# Altium integrated library AD Operational Amplifier.IntLib: 1114 symbols (part 7 of 13)
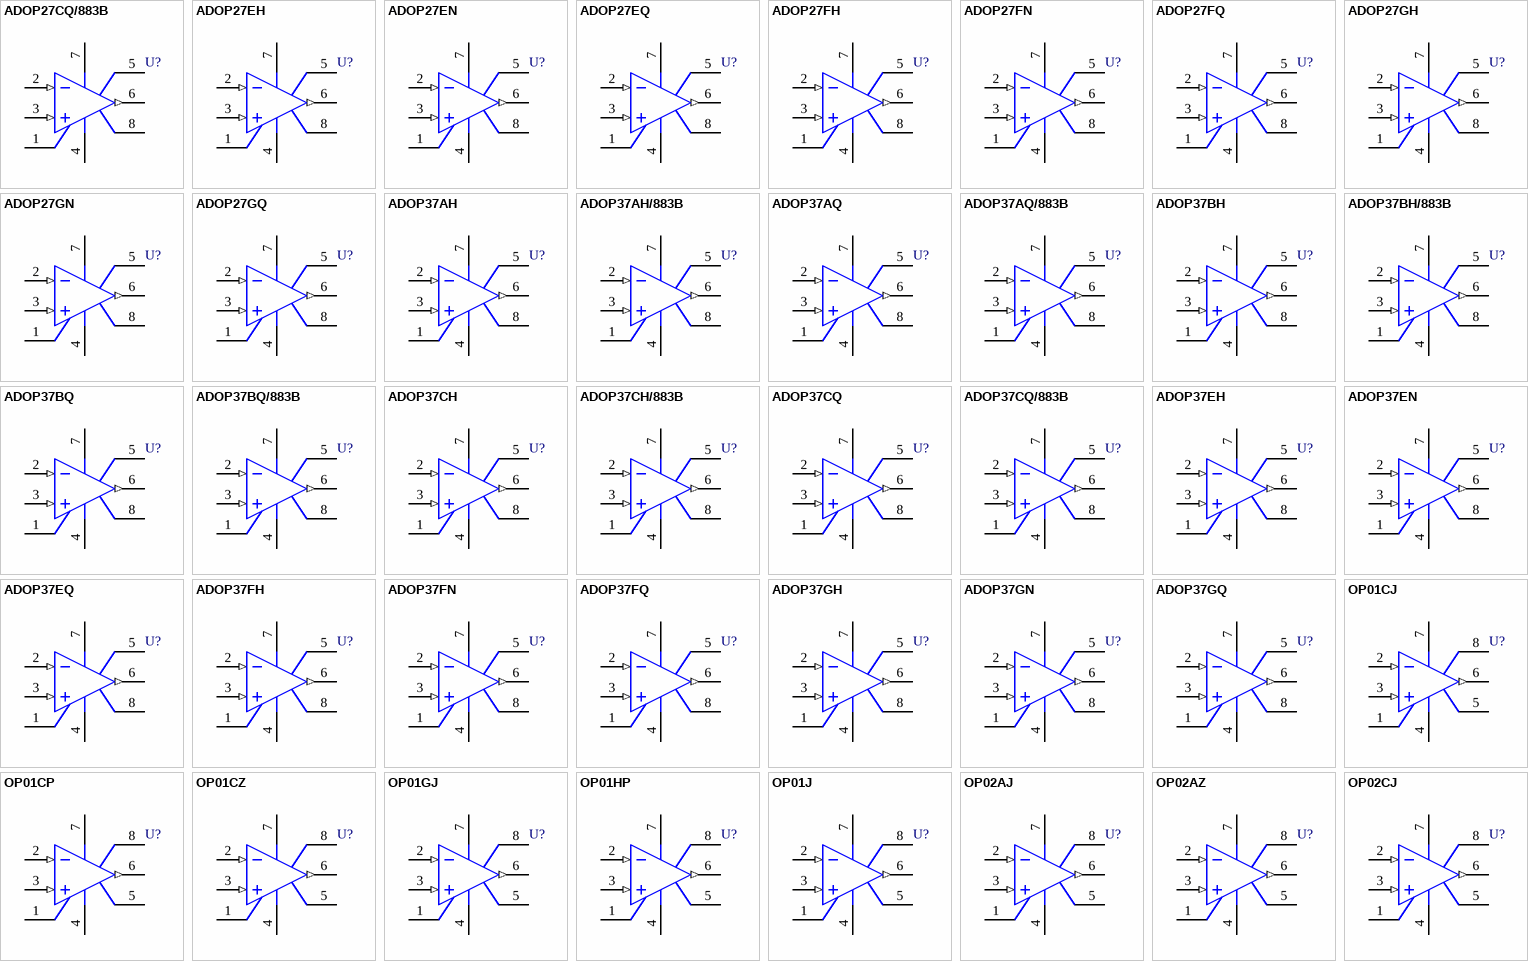
[diagram p52: symbols ADOP27CQ/883B to OP02CJ]

## ADOP37FQ
designator U?
Ultra-Low Noise, High-Speed, Precision Operational Amplifier (Avcl >= 5); Package Information: Latest Revision: 1998; Note: Pin 5 is not connected; Pin 4 connected to case.; Published: 8-Jun-2000; Revision: 17-Jul-2002: Re-released for DXP Platform.; Datasheet: Amplifier Reference Manual (1992); Package Reference: Q-8; Publisher: Altium Limited
footprint Q-8 (DIP; 8 Leads; Row Spacing 7.62 mm; Pitch 2.54 mm)
pins: 1 NULL1, 2 IN- (in), 3 IN+ (in), 4 V- (power), 5 NC, 6 OUT (out), 7 V+ (power), 8 NULL2

## ADOP37GH
designator U?
Ultra-Low Noise, High-Speed, Precision Operational Amplifier (Avcl >= 5); Package Information: Latest Revision: 1993; Note: Pin 5 is not connected; Pin 4 connected to case.; Published: 8-Jun-2000; Revision: 17-Jul-2002: Re-released for DXP Platform.; Datasheet: Latest Revision: REV.C 1993; Package Reference: H-08A_D; Publisher: Altium Limited
footprint H-08A_D (Can; 8 Leads; Pin Circle Dia. 5.08 mm; Lead Dia. 0.48 mm (max))
pins: 1 OS NULL, 2 IN- (in), 3 IN+ (in), 4 V- (power), 5 NC, 6 OUT (out), 7 V+ (power), 8 OS NULL

## ADOP37GN
designator U?
Ultra-Low Noise, High-Speed, Precision Operational Amplifier (Avcl >= 5); Note: Pin 5 is not connected; Pin 4 connected to case.; Code - JEDEC: MO-001-AN; Published: 8-Jun-2000; Revision: 17-Jul-2002: Re-released for DXP Platform.; Datasheet: Amplifier Reference Manual (1992); Package Reference: N-8_A; Publisher: Altium Limited
footprint N-8_A (DIP; 8 Leads; Row Spacing 7.62 mm; Pitch 2.54 mm)
pins: 1 NULL1, 2 IN- (in), 3 IN+ (in), 4 V- (power), 5 NC, 6 OUT (out), 7 V+ (power), 8 NULL2

## ADOP37GQ
designator U?
Ultra-Low Noise, High-Speed, Precision Operational Amplifier (Avcl >= 5); Package Information: Latest Revision: 1998; Note: Pin 5 is not connected; Pin 4 connected to case.; Published: 8-Jun-2000; Revision: 17-Jul-2002: Re-released for DXP Platform.; Datasheet: Amplifier Reference Manual (1992); Package Reference: Q-8; Publisher: Altium Limited
footprint Q-8 (DIP; 8 Leads; Row Spacing 7.62 mm; Pitch 2.54 mm)
pins: 1 NULL1, 2 IN- (in), 3 IN+ (in), 4 V- (power), 5 NC, 6 OUT (out), 7 V+ (power), 8 NULL2

## OP01CJ
designator U?
Inverting High-Speed Operational Amplifier; Package Information: Latest Revision: 1990; Note: Pin 8 is not connected; Pin 4 connected to case.; Published: 8-Jun-2000; Revision: 17-Jul-2002: Re-released for DXP Platform.; Datasheet: Amplifier Reference Manual (1992); Package Reference: H-08A; Publisher: Altium Limited
footprint H-08A (Can; 8 Leads; Pin Circle Dia. 5.08 mm; Lead Dia. 0.53 mm (max))
pins: 1 BAL, 2 IN- (in), 3 IN+ (in), 4 V- (power), 5 BAL, 6 OUT (out), 7 V+ (power), 8 NC

## OP01CP
designator U?
Inverting High-Speed Operational Amplifier; Note: Pin 8 is not connected; Pin 4 connected to case.; Code - JEDEC: MO-001-AN; Published: 8-Jun-2000; Revision: 17-Jul-2002: Re-released for DXP Platform.; Datasheet: Amplifier Reference Manual (1992); Package Reference: N-8_A; Publisher: Altium Limited
footprint N-8_A (DIP; 8 Leads; Row Spacing 7.62 mm; Pitch 2.54 mm)
pins: 1 BAL, 2 IN- (in), 3 IN+ (in), 4 V- (power), 5 BAL, 6 OUT (out), 7 V+ (power), 8 NC

## OP01CZ
designator U?
Inverting High-Speed Operational Amplifier; Package Information: Latest Revision: 1998; Note: Pin 8 is not connected; Pin 4 connected to case.; Published: 8-Jun-2000; Revision: 17-Jul-2002: Re-released for DXP Platform.; Datasheet: Amplifier Reference Manual (1992); Package Reference: Q-8; Publisher: Altium Limited
footprint Q-8 (DIP; 8 Leads; Row Spacing 7.62 mm; Pitch 2.54 mm)
pins: 1 BAL, 2 IN- (in), 3 IN+ (in), 4 V- (power), 5 BAL, 6 OUT (out), 7 V+ (power), 8 NC

## OP01GJ
designator U?
Inverting High-Speed Operational Amplifier; Package Information: Latest Revision: 1990; Note: Pin 8 is not connected; Pin 4 connected to case.; Published: 8-Jun-2000; Revision: 17-Jul-2002: Re-released for DXP Platform.; Datasheet: Amplifier Reference Manual (1992); Package Reference: H-08A; Publisher: Altium Limited
footprint H-08A (Can; 8 Leads; Pin Circle Dia. 5.08 mm; Lead Dia. 0.53 mm (max))
pins: 1 BAL, 2 IN- (in), 3 IN+ (in), 4 V- (power), 5 BAL, 6 OUT (out), 7 V+ (power), 8 NC

## OP01HP
designator U?
Inverting High-Speed Operational Amplifier; Note: Pin 8 is not connected; Pin 4 connected to case.; Code - JEDEC: MO-001-AN; Published: 8-Jun-2000; Revision: 17-Jul-2002: Re-released for DXP Platform.; Datasheet: Amplifier Reference Manual (1992); Package Reference: N-8_A; Publisher: Altium Limited
footprint N-8_A (DIP; 8 Leads; Row Spacing 7.62 mm; Pitch 2.54 mm)
pins: 1 BAL, 2 IN- (in), 3 IN+ (in), 4 V- (power), 5 BAL, 6 OUT (out), 7 V+ (power), 8 NC

## OP01J
designator U?
Inverting High-Speed Operational Amplifier; Package Information: Latest Revision: 1990; Note: Pin 8 is not connected; Pin 4 connected to case.; Published: 8-Jun-2000; Revision: 17-Jul-2002: Re-released for DXP Platform.; Datasheet: Amplifier Reference Manual (1992); Package Reference: H-08A; Publisher: Altium Limited
footprint H-08A (Can; 8 Leads; Pin Circle Dia. 5.08 mm; Lead Dia. 0.53 mm (max))
pins: 1 BAL, 2 IN- (in), 3 IN+ (in), 4 V- (power), 5 BAL, 6 OUT (out), 7 V+ (power), 8 NC

## OP02AJ
designator U?
General-Purpose Operational Amplifier; Package Information: Latest Revision: 1990; Note: Pin 8 is not connected; Pin 4 connected to case.; Published: 8-Jun-2000; Revision: 17-Jul-2002: Re-released for DXP Platform.; Datasheet: Designer's Reference Manual CD (1992); Package Reference: H-08A; Publisher: Altium Limited
footprint H-08A (Can; 8 Leads; Pin Circle Dia. 5.08 mm; Lead Dia. 0.53 mm (max))
pins: 1 OS NULL, 2 IN- (in), 3 IN+ (in), 4 V- (power), 5 OS NULL, 6 OUT (out), 7 V+ (power), 8 NC

## OP02AZ
designator U?
General-Purpose Operational Amplifier; Package Information: Latest Revision: 1998; Note: Pin 8 is not connected; Pin 4 connected to case.; Published: 8-Jun-2000; Revision: 17-Jul-2002: Re-released for DXP Platform.; Datasheet: Designer's Reference Manual CD (1992); Package Reference: Q-8; Publisher: Altium Limited
footprint Q-8 (DIP; 8 Leads; Row Spacing 7.62 mm; Pitch 2.54 mm)
pins: 1 BAL, 2 IN- (in), 3 IN+ (in), 4 V- (power), 5 BAL, 6 OUT (out), 7 V+ (power), 8 NC

## OP02CJ
designator U?
General-Purpose Operational Amplifier; Package Information: Latest Revision: 1990; Note: Pin 8 is not connected; Pin 4 connected to case.; Published: 8-Jun-2000; Revision: 17-Jul-2002: Re-released for DXP Platform.; Datasheet: Designer's Reference Manual CD (1992); Package Reference: H-08A; Publisher: Altium Limited
footprint H-08A (Can; 8 Leads; Pin Circle Dia. 5.08 mm; Lead Dia. 0.53 mm (max))
pins: 1 OS NULL, 2 IN- (in), 3 IN+ (in), 4 V- (power), 5 OS NULL, 6 OUT (out), 7 V+ (power), 8 NC

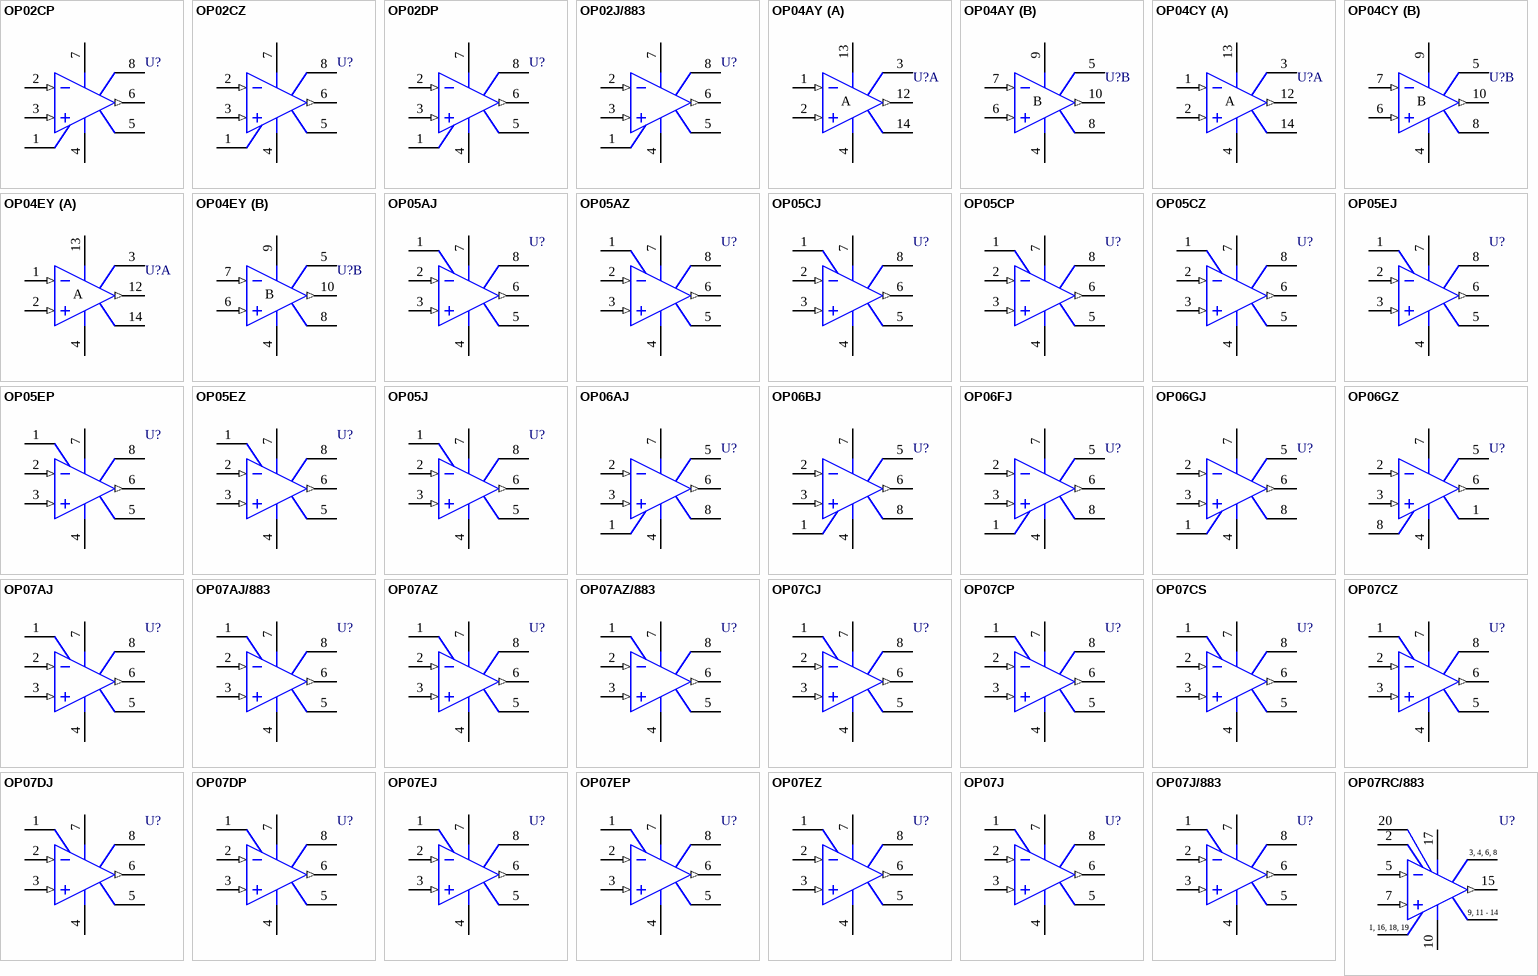
[diagram p19: symbols OP02CP to OP07RC/883]

## OP02CP
designator U?
General-Purpose Operational Amplifier; Note: Pin 8 is not connected; Pin 4 connected to case.; Code - JEDEC: MO-001-AN; Published: 8-Jun-2000; Revision: 17-Jul-2002: Re-released for DXP Platform.; Datasheet: Designer's Reference Manual CD (1992); Package Reference: N-8_A; Publisher: Altium Limited
footprint N-8_A (DIP; 8 Leads; Row Spacing 7.62 mm; Pitch 2.54 mm)
pins: 1 BAL, 2 IN- (in), 3 IN+ (in), 4 V- (power), 5 BAL, 6 OUT (out), 7 V+ (power), 8 NC

## OP02CZ
designator U?
General-Purpose Operational Amplifier; Package Information: Latest Revision: 1998; Note: Pin 8 is not connected; Pin 4 connected to case.; Published: 8-Jun-2000; Revision: 17-Jul-2002: Re-released for DXP Platform.; Datasheet: Designer's Reference Manual CD (1992); Package Reference: Q-8; Publisher: Altium Limited
footprint Q-8 (DIP; 8 Leads; Row Spacing 7.62 mm; Pitch 2.54 mm)
pins: 1 BAL, 2 IN- (in), 3 IN+ (in), 4 V- (power), 5 BAL, 6 OUT (out), 7 V+ (power), 8 NC

## OP02DP
designator U?
General-Purpose Operational Amplifier; Note: Pin 8 is not connected; Pin 4 connected to case.; Code - JEDEC: MO-001-AN; Published: 8-Jun-2000; Revision: 17-Jul-2002: Re-released for DXP Platform.; Datasheet: Designer's Reference Manual CD (1992); Package Reference: N-8_A; Publisher: Altium Limited
footprint N-8_A (DIP; 8 Leads; Row Spacing 7.62 mm; Pitch 2.54 mm)
pins: 1 BAL, 2 IN- (in), 3 IN+ (in), 4 V- (power), 5 BAL, 6 OUT (out), 7 V+ (power), 8 NC

## OP02J/883
designator U?
General-Purpose Operational Amplifier; Package Information: Latest Revision: 1990; Note: Pin 8 is not connected; Pin 4 connected to case.; Published: 8-Jun-2000; Revision: 17-Jul-2002: Re-released for DXP Platform.; Datasheet: Designer's Reference Manual CD (1992); Package Reference: H-08A; Publisher: Altium Limited
footprint H-08A (Can; 8 Leads; Pin Circle Dia. 5.08 mm; Lead Dia. 0.53 mm (max))
pins: 1 OS NULL, 2 IN- (in), 3 IN+ (in), 4 V- (power), 5 OS NULL, 6 OUT (out), 7 V+ (power), 8 NC

## OP04AY
designator U?
Dual Matched High Performance Operational Amplifier; Package Information: Latest Revision: revB; Note: Pin 11 is not connected (NC) and not drawn.; Published: 8-Jun-2000; Revision: 17-Jul-2002: Re-released for DXP Platform.; Datasheet: Designer's Reference Manual CD (REV. B 1992); Package Reference: Q-14; Publisher: Altium Limited
footprint Q-14 (DIP; 14 Leads; Row Spacing 7.62 mm; Pitch 2.54 mm)
pins on every part: 4 V- (power)
part A pins: 1 IN- (in), 2 IN+ (in), 3 BAL, 12 OUT (out), 13 V+ (power), 14 BAL
part B pins: 5 BAL, 6 IN+ (in), 7 IN- (in), 8 BAL, 9 V+ (power), 10 OUT (out)
part A text: A
part B text: B

## OP04CY
designator U?
Dual Matched High Performance Operational Amplifier; Package Information: Latest Revision: revB; Note: Pin 11 is not connected (NC) and not drawn.; Published: 8-Jun-2000; Revision: 17-Jul-2002: Re-released for DXP Platform.; Datasheet: Designer's Reference Manual CD (REV. B 1992); Package Reference: Q-14; Publisher: Altium Limited
footprint Q-14 (DIP; 14 Leads; Row Spacing 7.62 mm; Pitch 2.54 mm)
pins on every part: 4 V- (power)
part A pins: 1 IN- (in), 2 IN+ (in), 3 BAL, 12 OUT (out), 13 V+ (power), 14 BAL
part B pins: 5 BAL, 6 IN+ (in), 7 IN- (in), 8 BAL, 9 V+ (power), 10 OUT (out)
part A text: A
part B text: B

## OP04EY
designator U?
Dual Matched High Performance Operational Amplifier; Package Information: Latest Revision: revB; Note: Pin 11 is not connected (NC) and not drawn.; Published: 8-Jun-2000; Revision: 17-Jul-2002: Re-released for DXP Platform.; Datasheet: Designer's Reference Manual CD (REV. B 1992); Package Reference: Q-14; Publisher: Altium Limited
footprint Q-14 (DIP; 14 Leads; Row Spacing 7.62 mm; Pitch 2.54 mm)
pins on every part: 4 V- (power)
part A pins: 1 IN- (in), 2 IN+ (in), 3 BAL, 12 OUT (out), 13 V+ (power), 14 BAL
part B pins: 5 BAL, 6 IN+ (in), 7 IN- (in), 8 BAL, 9 V+ (power), 10 OUT (out)
part A text: A
part B text: B

## OP05AJ
designator U?
Instrumentation Operational Amplifier; Package Information: Latest Revision: 1990; Note: Pin 5 is not connected; Pin 4 connected to case.; Published: 8-Jun-2000; Revision: 17-Jul-2002: Re-released for DXP Platform.; Datasheet: Latest Revision: 1992; Package Reference: H-08A; Publisher: Altium Limited
footprint H-08A (Can; 8 Leads; Pin Circle Dia. 5.08 mm; Lead Dia. 0.53 mm (max))
pins: 1 VOSTRIM, 2 IN- (in), 3 IN+ (in), 4 V- (power), 5 NC, 6 OUT (out), 7 V+ (power), 8 VOSTRIM

## OP05AZ
designator U?
Instrumentation Operational Amplifier; Package Information: Latest Revision: 1998; Note: Pin 5 is not connected.; Published: 8-Jun-2000; Revision: 17-Jul-2002: Re-released for DXP Platform.; Datasheet: Latest Revision: 1992; Package Reference: Q-8; Publisher: Altium Limited
footprint Q-8 (DIP; 8 Leads; Row Spacing 7.62 mm; Pitch 2.54 mm)
pins: 1 VOSTRIM, 2 IN- (in), 3 IN+ (in), 4 V- (power), 5 NC, 6 OUT (out), 7 V+ (power), 8 VOSTRIM

## OP05CJ
designator U?
Instrumentation Operational Amplifier; Package Information: Latest Revision: 1990; Note: Pin 5 is not connected; Pin 4 connected to case.; Published: 8-Jun-2000; Revision: 17-Jul-2002: Re-released for DXP Platform.; Datasheet: Latest Revision: 1992; Package Reference: H-08A; Publisher: Altium Limited
footprint H-08A (Can; 8 Leads; Pin Circle Dia. 5.08 mm; Lead Dia. 0.53 mm (max))
pins: 1 VOSTRIM, 2 IN- (in), 3 IN+ (in), 4 V- (power), 5 NC, 6 OUT (out), 7 V+ (power), 8 VOSTRIM

## OP05CP
designator U?
Instrumentation Operational Amplifier; Note: Pin 5 is not connected.; Code - JEDEC: MO-001-AN; Published: 8-Jun-2000; Revision: 17-Jul-2002: Re-released for DXP Platform.; Datasheet: Latest Revision: 1992; Package Reference: N-8_A; Publisher: Altium Limited
footprint N-8_A (DIP; 8 Leads; Row Spacing 7.62 mm; Pitch 2.54 mm)
pins: 1 VOSTRIM, 2 IN- (in), 3 IN+ (in), 4 V- (power), 5 NC, 6 OUT (out), 7 V+ (power), 8 VOSTRIM

## OP05CZ
designator U?
Instrumentation Operational Amplifier; Package Information: Latest Revision: 1998; Note: Pin 5 is not connected.; Published: 8-Jun-2000; Revision: 17-Jul-2002: Re-released for DXP Platform.; Datasheet: Latest Revision: 1992; Package Reference: Q-8; Publisher: Altium Limited
footprint Q-8 (DIP; 8 Leads; Row Spacing 7.62 mm; Pitch 2.54 mm)
pins: 1 VOSTRIM, 2 IN- (in), 3 IN+ (in), 4 V- (power), 5 NC, 6 OUT (out), 7 V+ (power), 8 VOSTRIM

## OP05EJ
designator U?
Instrumentation Operational Amplifier; Package Information: Latest Revision: 1990; Note: Pin 5 is not connected; Pin 4 connected to case.; Published: 8-Jun-2000; Revision: 17-Jul-2002: Re-released for DXP Platform.; Datasheet: Latest Revision: 1992; Package Reference: H-08A; Publisher: Altium Limited
footprint H-08A (Can; 8 Leads; Pin Circle Dia. 5.08 mm; Lead Dia. 0.53 mm (max))
pins: 1 VOSTRIM, 2 IN- (in), 3 IN+ (in), 4 V- (power), 5 NC, 6 OUT (out), 7 V+ (power), 8 VOSTRIM

## OP05EP
designator U?
Instrumentation Operational Amplifier; Note: Pin 5 is not connected.; Code - JEDEC: MO-001-AN; Published: 8-Jun-2000; Revision: 17-Jul-2002: Re-released for DXP Platform.; Datasheet: Latest Revision: 1992; Package Reference: N-8_A; Publisher: Altium Limited
footprint N-8_A (DIP; 8 Leads; Row Spacing 7.62 mm; Pitch 2.54 mm)
pins: 1 VOSTRIM, 2 IN- (in), 3 IN+ (in), 4 V- (power), 5 NC, 6 OUT (out), 7 V+ (power), 8 VOSTRIM

## OP05EZ
designator U?
Instrumentation Operational Amplifier; Package Information: Latest Revision: 1998; Note: Pin 5 is not connected.; Published: 8-Jun-2000; Revision: 17-Jul-2002: Re-released for DXP Platform.; Datasheet: Latest Revision: 1992; Package Reference: Q-8; Publisher: Altium Limited
footprint Q-8 (DIP; 8 Leads; Row Spacing 7.62 mm; Pitch 2.54 mm)
pins: 1 VOSTRIM, 2 IN- (in), 3 IN+ (in), 4 V- (power), 5 NC, 6 OUT (out), 7 V+ (power), 8 VOSTRIM

## OP05J
designator U?
Instrumentation Operational Amplifier; Package Information: Latest Revision: 1990; Note: Pin 5 is not connected; Pin 4 connected to case.; Published: 8-Jun-2000; Revision: 17-Jul-2002: Re-released for DXP Platform.; Datasheet: Latest Revision: 1992; Package Reference: H-08A; Publisher: Altium Limited
footprint H-08A (Can; 8 Leads; Pin Circle Dia. 5.08 mm; Lead Dia. 0.53 mm (max))
pins: 1 VOSTRIM, 2 IN- (in), 3 IN+ (in), 4 V- (power), 5 NC, 6 OUT (out), 7 V+ (power), 8 VOSTRIM

## OP06AJ
designator U?
High-Gain Instrumentation Operational Amplifier; Package Information: Latest Revision: 1990; Note: Pin 4 connected to case.; Published: 8-Jun-2000; Revision: 17-Jul-2002: Re-released for DXP Platform.; Datasheet: Latest Revision: 1992; Package Reference: H-08A; Publisher: Altium Limited
footprint H-08A (Can; 8 Leads; Pin Circle Dia. 5.08 mm; Lead Dia. 0.53 mm (max))
pins: 1 VOSTRIM, 2 IN- (in), 3 IN+ (in), 4 V- (power), 5 CMPEN, 6 OUT (out), 7 V+ (power), 8 VOSTRIM

## OP06BJ
designator U?
High-Gain Instrumentation Operational Amplifier; Package Information: Latest Revision: 1990; Note: Pin 4 connected to case.; Published: 8-Jun-2000; Revision: 17-Jul-2002: Re-released for DXP Platform.; Datasheet: Latest Revision: 1992; Package Reference: H-08A; Publisher: Altium Limited
footprint H-08A (Can; 8 Leads; Pin Circle Dia. 5.08 mm; Lead Dia. 0.53 mm (max))
pins: 1 VOSTRIM, 2 IN- (in), 3 IN+ (in), 4 V- (power), 5 CMPEN, 6 OUT (out), 7 V+ (power), 8 VOSTRIM

## OP06FJ
designator U?
High-Gain Instrumentation Operational Amplifier; Package Information: Latest Revision: 1990; Note: Pin 4 connected to case.; Published: 8-Jun-2000; Revision: 17-Jul-2002: Re-released for DXP Platform.; Datasheet: Latest Revision: 1992; Package Reference: H-08A; Publisher: Altium Limited
footprint H-08A (Can; 8 Leads; Pin Circle Dia. 5.08 mm; Lead Dia. 0.53 mm (max))
pins: 1 VOSTRIM, 2 IN- (in), 3 IN+ (in), 4 V- (power), 5 CMPEN, 6 OUT (out), 7 V+ (power), 8 VOSTRIM

## OP06GJ
designator U?
High-Gain Instrumentation Operational Amplifier; Package Information: Latest Revision: 1990; Note: Pin 4 connected to case.; Published: 8-Jun-2000; Revision: 17-Jul-2002: Re-released for DXP Platform.; Datasheet: Latest Revision: 1992; Package Reference: H-08A; Publisher: Altium Limited
footprint H-08A (Can; 8 Leads; Pin Circle Dia. 5.08 mm; Lead Dia. 0.53 mm (max))
pins: 1 VOSTRIM, 2 IN- (in), 3 IN+ (in), 4 V- (power), 5 CMPEN, 6 OUT (out), 7 V+ (power), 8 VOSTRIM

## OP06GZ
designator U?
High-Gain Instrumentation Operational Amplifier; Package Information: Latest Revision: 1998; Note: Pin 4 connected to case.; Published: 8-Jun-2000; Revision: 17-Jul-2002: Re-released for DXP Platform.; Datasheet: Latest Revision: 1992; Package Reference: Q-8; Publisher: Altium Limited
footprint Q-8 (DIP; 8 Leads; Row Spacing 7.62 mm; Pitch 2.54 mm)
pins: 1 VOSTRIM, 2 IN- (in), 3 IN+ (in), 4 V- (power), 5 CMPEN, 6 OUT (out), 7 V+ (power), 8 VOSTRIM

## OP07AJ
designator U?
Ultra-Low Offset Voltage Operational Amplifier; Revision 1: 10-Jul-2000: SIM Model Added.; Revision 2: 17-Jul-2002: Re-released for DXP Platform.; Package Information: Latest Revision: 1990; Note: Pin 5 is not connected.; Published: 8-Jun-2000; Datasheet: Designer's Reference Manual CD (1992); Package Reference: H-08A; Publisher: Altium Limited
footprint H-08A (Can; 8 Leads; Pin Circle Dia. 5.08 mm; Lead Dia. 0.53 mm (max))
simulation model OP07A (SUBCKT)
pins: 1 VOSTRIM, 2 IN- (in), 3 IN+ (in), 4 V- (power), 5 NC, 6 OUT (out), 7 V+ (power), 8 VOSTRIM

## OP07AJ/883
designator U?
Ultra-Low Offset Voltage Operational Amplifier; Revision 1: 10-Jul-2000: SIM Model Added.; Revision 2: 17-Jul-2002: Re-released for DXP Platform.; Package Information: Latest Revision: 1990; Note: Pin 5 is not connected.; Published: 8-Jun-2000; Datasheet: Designer's Reference Manual CD (1992); Package Reference: H-08A; Publisher: Altium Limited
footprint H-08A (Can; 8 Leads; Pin Circle Dia. 5.08 mm; Lead Dia. 0.53 mm (max))
simulation model OP07A (SUBCKT)
pins: 1 VOSTRIM, 2 IN- (in), 3 IN+ (in), 4 V- (power), 5 NC, 6 OUT (out), 7 V+ (power), 8 VOSTRIM

## OP07AZ
designator U?
Ultra-Low Offset Voltage Operational Amplifier; Revision 1: 10-Jul-2000: SIM Model Added.; Revision 2: 17-Jul-2002: Re-released for DXP Platform.; Package Information: Latest Revision: 1998; Note: Pin 5 is not connected.; Published: 8-Jun-2000; Datasheet: Designer's Reference Manual CD (1992); Package Reference: Q-8; Publisher: Altium Limited
footprint Q-8 (DIP; 8 Leads; Row Spacing 7.62 mm; Pitch 2.54 mm)
simulation model OP07A (SUBCKT)
pins: 1 VOSTRIM, 2 IN- (in), 3 IN+ (in), 4 V- (power), 5 NC, 6 OUT (out), 7 V+ (power), 8 VOSTRIM

## OP07AZ/883
designator U?
Ultra-Low Offset Voltage Operational Amplifier; Revision 1: 10-Jul-2000: SIM Model Added.; Revision 2: 17-Jul-2002: Re-released for DXP Platform.; Package Information: Latest Revision: 1998; Note: Pin 5 is not connected.; Published: 8-Jun-2000; Datasheet: Designer's Reference Manual CD (1992); Package Reference: Q-8; Publisher: Altium Limited
footprint Q-8 (DIP; 8 Leads; Row Spacing 7.62 mm; Pitch 2.54 mm)
simulation model OP07A (SUBCKT)
pins: 1 VOSTRIM, 2 IN- (in), 3 IN+ (in), 4 V- (power), 5 NC, 6 OUT (out), 7 V+ (power), 8 VOSTRIM

## OP07CJ
designator U?
Ultra-Low Offset Voltage Operational Amplifier; Package Information: Latest Revision: 1990; Note: Pin 5 is not connected; Pin 4 connected to case.; Published: 8-Jun-2000; Revision: 17-Jul-2002: Re-released for DXP Platform.; Datasheet: Designer's Reference Manual CD (1992); Package Reference: H-08A; Publisher: Altium Limited
footprint H-08A (Can; 8 Leads; Pin Circle Dia. 5.08 mm; Lead Dia. 0.53 mm (max))
pins: 1 VOSTRIM, 2 IN- (in), 3 IN+ (in), 4 V- (power), 5 NC, 6 OUT (out), 7 V+ (power), 8 VOSTRIM

## OP07CP
designator U?
Ultra-Low Offset Voltage Operational Amplifier; Note: Pin 5 is not connected.; Code - JEDEC: MO-001-AN; Published: 8-Jun-2000; Revision: 17-Jul-2002: Re-released for DXP Platform.; Datasheet: Designer's Reference Manual CD (1992); Package Reference: N-8_A; Publisher: Altium Limited
footprint N-8_A (DIP; 8 Leads; Row Spacing 7.62 mm; Pitch 2.54 mm)
pins: 1 VOSTRIM, 2 IN- (in), 3 IN+ (in), 4 V- (power), 5 NC, 6 OUT (out), 7 V+ (power), 8 VOSTRIM

## OP07CS
designator U?
Ultra-Low Offset Voltage Operational Amplifier; Package Information: Latest Revision: revA; Note: Pin 5 is not connected.; Code - JEDEC: MS-012-AA; Code - IPC: SO8; Published: 8-Jun-2000; Revision: 17-Jul-2002: Re-released for DXP Platform.; Datasheet: Designer's Reference Manual CD (1992); Package Reference: SO-8; Publisher: Altium Limited
footprint SO-8 (Small Outline; 8 Leads; Body Width 3.9 mm; Pitch 1.27 mm)
pins: 1 VOSTRIM, 2 IN- (in), 3 IN+ (in), 4 V- (power), 5 NC, 6 OUT (out), 7 V+ (power), 8 VOSTRIM

## OP07CZ
designator U?
Ultra-Low Offset Voltage Operational Amplifier; Package Information: Latest Revision: 1998; Note: Pin 5 is not connected.; Published: 8-Jun-2000; Revision: 17-Jul-2002: Re-released for DXP Platform.; Datasheet: Designer's Reference Manual CD (1992); Package Reference: Q-8; Publisher: Altium Limited
footprint Q-8 (DIP; 8 Leads; Row Spacing 7.62 mm; Pitch 2.54 mm)
pins: 1 VOSTRIM, 2 IN- (in), 3 IN+ (in), 4 V- (power), 5 NC, 6 OUT (out), 7 V+ (power), 8 VOSTRIM

## OP07DJ
designator U?
Ultra-Low Offset Voltage Operational Amplifier; Package Information: Latest Revision: 1990; Note: Pin 5 is not connected; Pin 4 connected to case.; Published: 8-Jun-2000; Revision: 17-Jul-2002: Re-released for DXP Platform.; Datasheet: Designer's Reference Manual CD (1992); Package Reference: H-08A; Publisher: Altium Limited
footprint H-08A (Can; 8 Leads; Pin Circle Dia. 5.08 mm; Lead Dia. 0.53 mm (max))
pins: 1 VOSTRIM, 2 IN- (in), 3 IN+ (in), 4 V- (power), 5 NC, 6 OUT (out), 7 V+ (power), 8 VOSTRIM

## OP07DP
designator U?
Ultra-Low Offset Voltage Operational Amplifier; Note: Pin 5 is not connected.; Code - JEDEC: MO-001-AN; Published: 8-Jun-2000; Revision: 17-Jul-2002: Re-released for DXP Platform.; Datasheet: Designer's Reference Manual CD (1992); Package Reference: N-8_A; Publisher: Altium Limited
footprint N-8_A (DIP; 8 Leads; Row Spacing 7.62 mm; Pitch 2.54 mm)
pins: 1 VOSTRIM, 2 IN- (in), 3 IN+ (in), 4 V- (power), 5 NC, 6 OUT (out), 7 V+ (power), 8 VOSTRIM

## OP07EJ
designator U?
Ultra-Low Offset Voltage Operational Amplifier; Revision 1: 10-Jul-2000: SIM Model Added.; Revision 2: 17-Jul-2002: Re-released for DXP Platform.; Package Information: Latest Revision: 1990; Note: Pin 5 is not connected.; Published: 8-Jun-2000; Datasheet: Designer's Reference Manual CD (1992); Package Reference: H-08A; Publisher: Altium Limited
footprint H-08A (Can; 8 Leads; Pin Circle Dia. 5.08 mm; Lead Dia. 0.53 mm (max))
simulation model OP07E (SUBCKT)
pins: 1 VOSTRIM, 2 IN- (in), 3 IN+ (in), 4 V- (power), 5 NC, 6 OUT (out), 7 V+ (power), 8 VOSTRIM

## OP07EP
designator U?
Ultra-Low Offset Voltage Operational Amplifier; Revision 1: 10-Jul-2000: SIM Model Added.; Revision 2: 17-Jul-2002: Re-released for DXP Platform.; Note: Pin 5 is not connected.; Code - JEDEC: MO-001-AN; Published: 8-Jun-2000; Datasheet: Designer's Reference Manual CD (1992); Package Reference: N-8_A; Publisher: Altium Limited
footprint N-8_A (DIP; 8 Leads; Row Spacing 7.62 mm; Pitch 2.54 mm)
simulation model OP07E (SUBCKT)
pins: 1 VOSTRIM, 2 IN- (in), 3 IN+ (in), 4 V- (power), 5 NC, 6 OUT (out), 7 V+ (power), 8 VOSTRIM

## OP07EZ
designator U?
Ultra-Low Offset Voltage Operational Amplifier; Revision 1: 10-Jul-2000: SIM Model Added.; Revision 2: 17-Jul-2002: Re-released for DXP Platform.; Package Information: Latest Revision: 1998; Note: Pin 5 is not connected.; Published: 8-Jun-2000; Datasheet: Designer's Reference Manual CD (1992); Package Reference: Q-8; Publisher: Altium Limited
footprint Q-8 (DIP; 8 Leads; Row Spacing 7.62 mm; Pitch 2.54 mm)
simulation model OP07E (SUBCKT)
pins: 1 VOSTRIM, 2 IN- (in), 3 IN+ (in), 4 V- (power), 5 NC, 6 OUT (out), 7 V+ (power), 8 VOSTRIM

## OP07J
designator U?
Ultra-Low Offset Voltage Operational Amplifier; Package Information: Latest Revision: 1990; Note: Pin 5 is not connected; Pin 4 connected to case.; Published: 8-Jun-2000; Revision: 17-Jul-2002: Re-released for DXP Platform.; Datasheet: Designer's Reference Manual CD (1992); Package Reference: H-08A; Publisher: Altium Limited
footprint H-08A (Can; 8 Leads; Pin Circle Dia. 5.08 mm; Lead Dia. 0.53 mm (max))
pins: 1 VOSTRIM, 2 IN- (in), 3 IN+ (in), 4 V- (power), 5 NC, 6 OUT (out), 7 V+ (power), 8 VOSTRIM

## OP07J/883
designator U?
Ultra-Low Offset Voltage Operational Amplifier; Package Information: Latest Revision: 1990; Note: Pin 5 is not connected; Pin 4 connected to case.; Published: 8-Jun-2000; Revision: 17-Jul-2002: Re-released for DXP Platform.; Datasheet: Designer's Reference Manual CD (1992); Package Reference: H-08A; Publisher: Altium Limited
footprint H-08A (Can; 8 Leads; Pin Circle Dia. 5.08 mm; Lead Dia. 0.53 mm (max))
pins: 1 VOSTRIM, 2 IN- (in), 3 IN+ (in), 4 V- (power), 5 NC, 6 OUT (out), 7 V+ (power), 8 VOSTRIM

## OP07RC/883
designator U?
Ultra-Low Offset Voltage Operational Amplifier; Note: Pins 1, 3, 4, 6, 8, 9, 11, 12, 13, 14, 16, 18 and 19 are not connected.; Published: 8-Jun-2000; Revision: 17-Jul-2002: Re-released for DXP Platform.; Datasheet: Designer's Reference Manual CD (1992); Package Reference: E-20A; Publisher: Altium Limited
footprint E-20A (Leadless Chip Carrier; 20 Terminals; Body 8.9 x 8.9 mm)
pins: 1 NC, 2 VOSTRIM, 3 NC, 4 NC, 5 IN- (in), 6 NC, 7 IN+ (in), 8 NC, 9 NC, 10 V- (power), 11 NC, 12 NC, 13 NC, 14 NC, 15 OUT (out), 16 NC, 17 V+ (power), 18 NC, 19 NC, 20 VOSTRIM
text: 3, 4, 6, 8; 9, 11 - 14; 1, 16, 18, 19

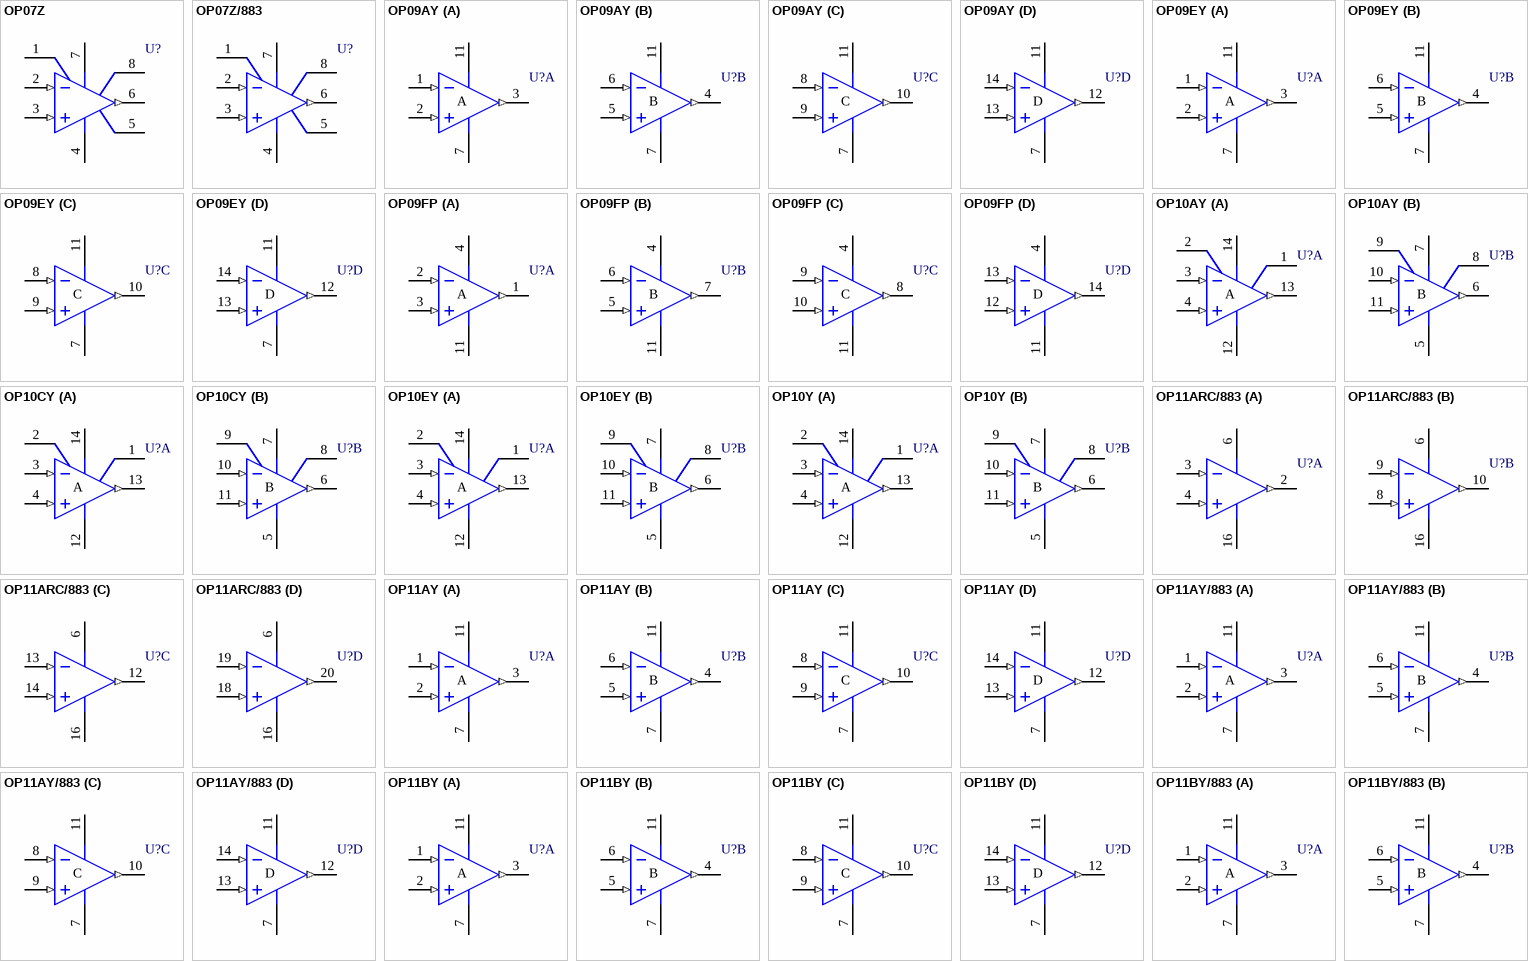
[diagram p20: symbols OP07Z to OP11BY/883]

## OP07Z
designator U?
Ultra-Low Offset Voltage Operational Amplifier; Package Information: Latest Revision: 1998; Note: Pin 5 is not connected.; Published: 8-Jun-2000; Revision: 17-Jul-2002: Re-released for DXP Platform.; Datasheet: Designer's Reference Manual CD (1992); Package Reference: Q-8; Publisher: Altium Limited
footprint Q-8 (DIP; 8 Leads; Row Spacing 7.62 mm; Pitch 2.54 mm)
pins: 1 VOSTRIM, 2 IN- (in), 3 IN+ (in), 4 V- (power), 5 NC, 6 OUT (out), 7 V+ (power), 8 VOSTRIM

## OP07Z/883
designator U?
Ultra-Low Offset Voltage Operational Amplifier; Package Information: Latest Revision: 1998; Note: Pin 5 is not connected.; Published: 8-Jun-2000; Revision: 17-Jul-2002: Re-released for DXP Platform.; Datasheet: Designer's Reference Manual CD (1992); Package Reference: Q-8; Publisher: Altium Limited
footprint Q-8 (DIP; 8 Leads; Row Spacing 7.62 mm; Pitch 2.54 mm)
pins: 1 VOSTRIM, 2 IN- (in), 3 IN+ (in), 4 V- (power), 5 NC, 6 OUT (out), 7 V+ (power), 8 VOSTRIM

## OP09AY
designator U?
Quad Matched 741-Type Operational Amplifier; Package Information: Latest Revision: revB; Published: 8-Jun-2000; Revision: 17-Jul-2002: Re-released for DXP Platform.; Datasheet: Latest Revision: 1992; Package Reference: Q-14; Publisher: Altium Limited
footprint Q-14 (DIP; 14 Leads; Row Spacing 7.62 mm; Pitch 2.54 mm)
pins on every part: 7 V- (power), 11 V+ (power)
part A pins: 1 IN- (in), 2 IN+ (in), 3 OUT (out)
part B pins: 4 OUT (out), 5 IN+ (in), 6 IN- (in)
part C pins: 8 IN- (in), 9 IN+ (in), 10 OUT (out)
part D pins: 12 OUT (out), 13 IN+ (in), 14 IN- (in)
part A text: A
part B text: B
part C text: C
part D text: D

## OP09EY
designator U?
Quad Matched 741-Type Operational Amplifier; Package Information: Latest Revision: revB; Published: 8-Jun-2000; Revision: 17-Jul-2002: Re-released for DXP Platform.; Datasheet: Latest Revision: 1992; Package Reference: Q-14; Publisher: Altium Limited
footprint Q-14 (DIP; 14 Leads; Row Spacing 7.62 mm; Pitch 2.54 mm)
pins on every part: 7 V- (power), 11 V+ (power)
part A pins: 1 IN- (in), 2 IN+ (in), 3 OUT (out)
part B pins: 4 OUT (out), 5 IN+ (in), 6 IN- (in)
part C pins: 8 IN- (in), 9 IN+ (in), 10 OUT (out)
part D pins: 12 OUT (out), 13 IN+ (in), 14 IN- (in)
part A text: A
part B text: B
part C text: C
part D text: D

## OP09FP
designator U?
Quad Matched 741-Type Operational Amplifier; Package Information: Latest Revision: 1999; Published: 8-Jun-2000; Revision: 17-Jul-2002: Re-released for DXP Platform.; Datasheet: Latest Revision: 1992; Package Reference: N-14; Publisher: Altium Limited
footprint N-14 (DIP; 14 Leads; Row Spacing 7.62 mm; Pitch 2.54 mm)
pins on every part: 4 V+ (power), 11 V- (power)
part A pins: 1 OUT (out), 2 IN- (in), 3 IN+ (in)
part B pins: 5 IN+ (in), 6 IN- (in), 7 OUT (out)
part C pins: 8 OUT (out), 9 IN- (in), 10 IN+ (in)
part D pins: 12 IN+ (in), 13 IN- (in), 14 OUT (out)
part A text: A
part B text: B
part C text: C
part D text: D

## OP10AY
designator U?
Dual Matched Instrumentation Operational Amplifier; Package Information: Latest Revision: revB; Published: 8-Jun-2000; Revision: 17-Jul-2002: Re-released for DXP Platform.; Datasheet: Latest Revision: 1992; Package Reference: Q-14; Publisher: Altium Limited
footprint Q-14 (DIP; 14 Leads; Row Spacing 7.62 mm; Pitch 2.54 mm)
part A pins: 1 NUL, 2 NUL, 3 IN- (in), 4 IN+ (in), 12 V- (power), 13 OUT (out), 14 V+ (power)
part B pins: 5 V- (power), 6 OUT (out), 7 V+ (power), 8 NUL, 9 NUL, 10 IN- (in), 11 IN+ (in)
part A text: A
part B text: B

## OP10CY
designator U?
Dual Matched Instrumentation Operational Amplifier; Package Information: Latest Revision: revB; Published: 8-Jun-2000; Revision: 17-Jul-2002: Re-released for DXP Platform.; Datasheet: Latest Revision: 1992; Package Reference: Q-14; Publisher: Altium Limited
footprint Q-14 (DIP; 14 Leads; Row Spacing 7.62 mm; Pitch 2.54 mm)
part A pins: 1 NUL, 2 NUL, 3 IN- (in), 4 IN+ (in), 12 V- (power), 13 OUT (out), 14 V+ (power)
part B pins: 5 V- (power), 6 OUT (out), 7 V+ (power), 8 NUL, 9 NUL, 10 IN- (in), 11 IN+ (in)
part A text: A
part B text: B

## OP10EY
designator U?
Dual Matched Instrumentation Operational Amplifier; Package Information: Latest Revision: revB; Published: 8-Jun-2000; Revision: 17-Jul-2002: Re-released for DXP Platform.; Datasheet: Latest Revision: 1992; Package Reference: Q-14; Publisher: Altium Limited
footprint Q-14 (DIP; 14 Leads; Row Spacing 7.62 mm; Pitch 2.54 mm)
part A pins: 1 NUL, 2 NUL, 3 IN- (in), 4 IN+ (in), 12 V- (power), 13 OUT (out), 14 V+ (power)
part B pins: 5 V- (power), 6 OUT (out), 7 V+ (power), 8 NUL, 9 NUL, 10 IN- (in), 11 IN+ (in)
part A text: A
part B text: B

## OP10Y
designator U?
Dual Matched Instrumentation Operational Amplifier; Package Information: Latest Revision: revB; Published: 8-Jun-2000; Revision: 17-Jul-2002: Re-released for DXP Platform.; Datasheet: Latest Revision: 1992; Package Reference: Q-14; Publisher: Altium Limited
footprint Q-14 (DIP; 14 Leads; Row Spacing 7.62 mm; Pitch 2.54 mm)
part A pins: 1 NUL, 2 NUL, 3 IN- (in), 4 IN+ (in), 12 V- (power), 13 OUT (out), 14 V+ (power)
part B pins: 5 V- (power), 6 OUT (out), 7 V+ (power), 8 NUL, 9 NUL, 10 IN- (in), 11 IN+ (in)
part A text: A
part B text: B

## OP11ARC/883
designator U?
Quad Matched 741-Type Operational Amplifier; Note: Pins 1, 5, 7, 11, 15 and 17 are not internally connected (NC) and are not drawn.; Published: 8-Jun-2000; Revision: 17-Jul-2002: Re-released for DXP Platform.; Datasheet: Latest Revision: 1992; Package Reference: E-20A; Publisher: Altium Limited
footprint E-20A (Leadless Chip Carrier; 20 Terminals; Body 8.9 x 8.9 mm)
pins on every part: 6 V+ (power), 16 V- (power)
part A pins: 2 OUT (out), 3 IN- (in), 4 IN+ (in)
part B pins: 8 IN+ (in), 9 IN- (in), 10 OUT (out)
part C pins: 12 OUT (out), 13 IN- (in), 14 IN+ (in)
part D pins: 18 IN+ (in), 19 IN- (in), 20 OUT (out)

## OP11AY
designator U?
Quad Matched 741-Type Operational Amplifier; Package Information: Latest Revision: revB; Published: 8-Jun-2000; Revision: 17-Jul-2002: Re-released for DXP Platform.; Datasheet: Latest Revision: 1992; Package Reference: Q-14; Publisher: Altium Limited
footprint Q-14 (DIP; 14 Leads; Row Spacing 7.62 mm; Pitch 2.54 mm)
pins on every part: 7 V- (power), 11 V+ (power)
part A pins: 1 IN- (in), 2 IN+ (in), 3 OUT (out)
part B pins: 4 OUT (out), 5 IN+ (in), 6 IN- (in)
part C pins: 8 IN- (in), 9 IN+ (in), 10 OUT (out)
part D pins: 12 OUT (out), 13 IN+ (in), 14 IN- (in)
part A text: A
part B text: B
part C text: C
part D text: D

## OP11AY/883
designator U?
Quad Matched 741-Type Operational Amplifier; Package Information: Latest Revision: revB; Published: 8-Jun-2000; Revision: 17-Jul-2002: Re-released for DXP Platform.; Datasheet: Latest Revision: 1992; Package Reference: Q-14; Publisher: Altium Limited
footprint Q-14 (DIP; 14 Leads; Row Spacing 7.62 mm; Pitch 2.54 mm)
pins on every part: 7 V- (power), 11 V+ (power)
part A pins: 1 IN- (in), 2 IN+ (in), 3 OUT (out)
part B pins: 4 OUT (out), 5 IN+ (in), 6 IN- (in)
part C pins: 8 IN- (in), 9 IN+ (in), 10 OUT (out)
part D pins: 12 OUT (out), 13 IN+ (in), 14 IN- (in)
part A text: A
part B text: B
part C text: C
part D text: D

## OP11BY
designator U?
Quad Matched 741-Type Operational Amplifier; Package Information: Latest Revision: revB; Published: 8-Jun-2000; Revision: 17-Jul-2002: Re-released for DXP Platform.; Datasheet: Latest Revision: 1992; Package Reference: Q-14; Publisher: Altium Limited
footprint Q-14 (DIP; 14 Leads; Row Spacing 7.62 mm; Pitch 2.54 mm)
pins on every part: 7 V- (power), 11 V+ (power)
part A pins: 1 IN- (in), 2 IN+ (in), 3 OUT (out)
part B pins: 4 OUT (out), 5 IN+ (in), 6 IN- (in)
part C pins: 8 IN- (in), 9 IN+ (in), 10 OUT (out)
part D pins: 12 OUT (out), 13 IN+ (in), 14 IN- (in)
part A text: A
part B text: B
part C text: C
part D text: D

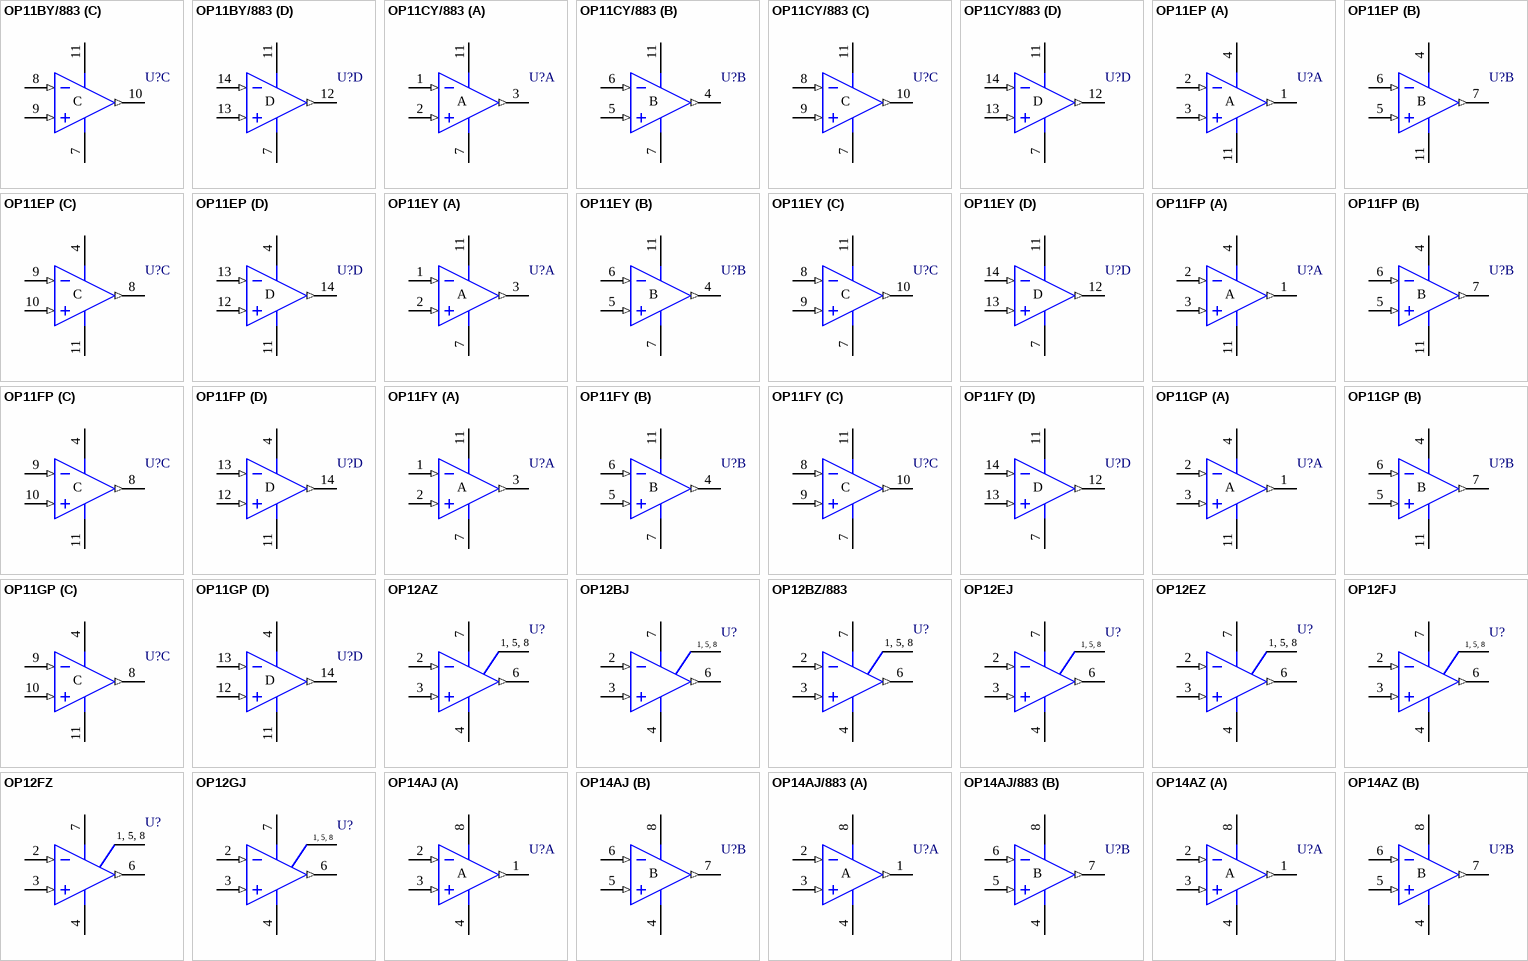
[diagram p21: symbols OP11BY/883 to OP14AZ]

## OP11BY/883
designator U?
Quad Matched 741-Type Operational Amplifier; Package Information: Latest Revision: revB; Published: 8-Jun-2000; Revision: 17-Jul-2002: Re-released for DXP Platform.; Datasheet: Latest Revision: 1992; Package Reference: Q-14; Publisher: Altium Limited
footprint Q-14 (DIP; 14 Leads; Row Spacing 7.62 mm; Pitch 2.54 mm)
pins on every part: 7 V- (power), 11 V+ (power)
part A pins: 1 IN- (in), 2 IN+ (in), 3 OUT (out)
part B pins: 4 OUT (out), 5 IN+ (in), 6 IN- (in)
part C pins: 8 IN- (in), 9 IN+ (in), 10 OUT (out)
part D pins: 12 OUT (out), 13 IN+ (in), 14 IN- (in)
part A text: A
part B text: B
part C text: C
part D text: D

## OP11CY/883
designator U?
Quad Matched 741-Type Operational Amplifier; Package Information: Latest Revision: revB; Published: 8-Jun-2000; Revision: 17-Jul-2002: Re-released for DXP Platform.; Datasheet: Latest Revision: 1992; Package Reference: Q-14; Publisher: Altium Limited
footprint Q-14 (DIP; 14 Leads; Row Spacing 7.62 mm; Pitch 2.54 mm)
pins on every part: 7 V- (power), 11 V+ (power)
part A pins: 1 IN- (in), 2 IN+ (in), 3 OUT (out)
part B pins: 4 OUT (out), 5 IN+ (in), 6 IN- (in)
part C pins: 8 IN- (in), 9 IN+ (in), 10 OUT (out)
part D pins: 12 OUT (out), 13 IN+ (in), 14 IN- (in)
part A text: A
part B text: B
part C text: C
part D text: D

## OP11EP
designator U?
Quad Matched 741-Type Operational Amplifier; Package Information: Latest Revision: 1999; Published: 8-Jun-2000; Revision: 17-Jul-2002: Re-released for DXP Platform.; Datasheet: Latest Revision: 1992; Package Reference: N-14; Publisher: Altium Limited
footprint N-14 (DIP; 14 Leads; Row Spacing 7.62 mm; Pitch 2.54 mm)
pins on every part: 4 V+ (power), 11 V- (power)
part A pins: 1 OUT (out), 2 IN- (in), 3 IN+ (in)
part B pins: 5 IN+ (in), 6 IN- (in), 7 OUT (out)
part C pins: 8 OUT (out), 9 IN- (in), 10 IN+ (in)
part D pins: 12 IN+ (in), 13 IN- (in), 14 OUT (out)
part A text: A
part B text: B
part C text: C
part D text: D

## OP11EY
designator U?
Quad Matched 741-Type Operational Amplifier; Package Information: Latest Revision: revB; Published: 8-Jun-2000; Revision: 17-Jul-2002: Re-released for DXP Platform.; Datasheet: Latest Revision: 1992; Package Reference: Q-14; Publisher: Altium Limited
footprint Q-14 (DIP; 14 Leads; Row Spacing 7.62 mm; Pitch 2.54 mm)
pins on every part: 7 V- (power), 11 V+ (power)
part A pins: 1 IN- (in), 2 IN+ (in), 3 OUT (out)
part B pins: 4 OUT (out), 5 IN+ (in), 6 IN- (in)
part C pins: 8 IN- (in), 9 IN+ (in), 10 OUT (out)
part D pins: 12 OUT (out), 13 IN+ (in), 14 IN- (in)
part A text: A
part B text: B
part C text: C
part D text: D

## OP11FP
designator U?
Quad Matched 741-Type Operational Amplifier; Package Information: Latest Revision: 1999; Published: 8-Jun-2000; Revision: 17-Jul-2002: Re-released for DXP Platform.; Datasheet: Latest Revision: 1992; Package Reference: N-14; Publisher: Altium Limited
footprint N-14 (DIP; 14 Leads; Row Spacing 7.62 mm; Pitch 2.54 mm)
pins on every part: 4 V+ (power), 11 V- (power)
part A pins: 1 OUT (out), 2 IN- (in), 3 IN+ (in)
part B pins: 5 IN+ (in), 6 IN- (in), 7 OUT (out)
part C pins: 8 OUT (out), 9 IN- (in), 10 IN+ (in)
part D pins: 12 IN+ (in), 13 IN- (in), 14 OUT (out)
part A text: A
part B text: B
part C text: C
part D text: D

## OP11FY
designator U?
Quad Matched 741-Type Operational Amplifier; Package Information: Latest Revision: revB; Published: 8-Jun-2000; Revision: 17-Jul-2002: Re-released for DXP Platform.; Datasheet: Latest Revision: 1992; Package Reference: Q-14; Publisher: Altium Limited
footprint Q-14 (DIP; 14 Leads; Row Spacing 7.62 mm; Pitch 2.54 mm)
pins on every part: 7 V- (power), 11 V+ (power)
part A pins: 1 IN- (in), 2 IN+ (in), 3 OUT (out)
part B pins: 4 OUT (out), 5 IN+ (in), 6 IN- (in)
part C pins: 8 IN- (in), 9 IN+ (in), 10 OUT (out)
part D pins: 12 OUT (out), 13 IN+ (in), 14 IN- (in)
part A text: A
part B text: B
part C text: C
part D text: D

## OP11GP
designator U?
Quad Matched 741-Type Operational Amplifier; Package Information: Latest Revision: 1999; Published: 8-Jun-2000; Revision: 17-Jul-2002: Re-released for DXP Platform.; Datasheet: Latest Revision: 1992; Package Reference: N-14; Publisher: Altium Limited
footprint N-14 (DIP; 14 Leads; Row Spacing 7.62 mm; Pitch 2.54 mm)
pins on every part: 4 V+ (power), 11 V- (power)
part A pins: 1 OUT (out), 2 IN- (in), 3 IN+ (in)
part B pins: 5 IN+ (in), 6 IN- (in), 7 OUT (out)
part C pins: 8 OUT (out), 9 IN- (in), 10 IN+ (in)
part D pins: 12 IN+ (in), 13 IN- (in), 14 OUT (out)
part A text: A
part B text: B
part C text: C
part D text: D

## OP12AZ
designator U?
Precision Low-Input-Current Operational Amplifier; Package Information: Latest Revision: 1998; Note: Pins 1, 5 and 8 are not connected; Pin 4 connected to case.; Published: 8-Jun-2000; Revision: 17-Jul-2002: Re-released for DXP Platform.; Datasheet: Designer's Reference Manual CD (1992); Package Reference: Q-8; Publisher: Altium Limited
footprint Q-8 (DIP; 8 Leads; Row Spacing 7.62 mm; Pitch 2.54 mm)
pins: 1 NC, 2 IN- (in), 3 IN+ (in), 4 V- (power), 5 NC, 6 OUT (out), 7 V+ (power), 8 NC
text: 1, 5, 8

## OP12BJ
designator U?
Precision Low-Input-Current Operational Amplifier; Package Information: Latest Revision: 1990; Note: Pins 1, 5 and 8 are not connected; Pin 4 connected to case.; Published: 8-Jun-2000; Revision: 17-Jul-2002: Re-released for DXP Platform.; Datasheet: Designer's Reference Manual CD (1992); Package Reference: H-08A; Publisher: Altium Limited
footprint H-08A (Can; 8 Leads; Pin Circle Dia. 5.08 mm; Lead Dia. 0.53 mm (max))
pins: 1 NC, 2 IN- (in), 3 IN+ (in), 4 V- (power), 5 NC, 6 OUT (out), 7 V+ (power), 8 NC
text: 1, 5, 8

## OP12BZ/883
designator U?
Precision Low-Input-Current Operational Amplifier; Package Information: Latest Revision: 1998; Note: Pins 1, 5 and 8 are not connected; Pin 4 connected to case.; Published: 8-Jun-2000; Revision: 17-Jul-2002: Re-released for DXP Platform.; Datasheet: Designer's Reference Manual CD (1992); Package Reference: Q-8; Publisher: Altium Limited
footprint Q-8 (DIP; 8 Leads; Row Spacing 7.62 mm; Pitch 2.54 mm)
pins: 1 NC, 2 IN- (in), 3 IN+ (in), 4 V- (power), 5 NC, 6 OUT (out), 7 V+ (power), 8 NC
text: 1, 5, 8

## OP12EJ
designator U?
Precision Low-Input-Current Operational Amplifier; Package Information: Latest Revision: 1990; Note: Pins 1, 5 and 8 are not connected; Pin 4 connected to case.; Published: 8-Jun-2000; Revision: 17-Jul-2002: Re-released for DXP Platform.; Datasheet: Designer's Reference Manual CD (1992); Package Reference: H-08A; Publisher: Altium Limited
footprint H-08A (Can; 8 Leads; Pin Circle Dia. 5.08 mm; Lead Dia. 0.53 mm (max))
pins: 1 NC, 2 IN- (in), 3 IN+ (in), 4 V- (power), 5 NC, 6 OUT (out), 7 V+ (power), 8 NC
text: 1, 5, 8

## OP12EZ
designator U?
Precision Low-Input-Current Operational Amplifier; Package Information: Latest Revision: 1998; Note: Pins 1, 5 and 8 are not connected; Pin 4 connected to case.; Published: 8-Jun-2000; Revision: 17-Jul-2002: Re-released for DXP Platform.; Datasheet: Designer's Reference Manual CD (1992); Package Reference: Q-8; Publisher: Altium Limited
footprint Q-8 (DIP; 8 Leads; Row Spacing 7.62 mm; Pitch 2.54 mm)
pins: 1 NC, 2 IN- (in), 3 IN+ (in), 4 V- (power), 5 NC, 6 OUT (out), 7 V+ (power), 8 NC
text: 1, 5, 8

## OP12FJ
designator U?
Precision Low-Input-Current Operational Amplifier; Package Information: Latest Revision: 1990; Note: Pins 1, 5 and 8 are not connected; Pin 4 connected to case.; Published: 8-Jun-2000; Revision: 17-Jul-2002: Re-released for DXP Platform.; Datasheet: Designer's Reference Manual CD (1992); Package Reference: H-08A; Publisher: Altium Limited
footprint H-08A (Can; 8 Leads; Pin Circle Dia. 5.08 mm; Lead Dia. 0.53 mm (max))
pins: 1 NC, 2 IN- (in), 3 IN+ (in), 4 V- (power), 5 NC, 6 OUT (out), 7 V+ (power), 8 NC
text: 1, 5, 8

## OP12FZ
designator U?
Precision Low-Input-Current Operational Amplifier; Package Information: Latest Revision: 1998; Note: Pins 1, 5 and 8 are not connected; Pin 4 connected to case.; Published: 8-Jun-2000; Revision: 17-Jul-2002: Re-released for DXP Platform.; Datasheet: Designer's Reference Manual CD (1992); Package Reference: Q-8; Publisher: Altium Limited
footprint Q-8 (DIP; 8 Leads; Row Spacing 7.62 mm; Pitch 2.54 mm)
pins: 1 NC, 2 IN- (in), 3 IN+ (in), 4 V- (power), 5 NC, 6 OUT (out), 7 V+ (power), 8 NC
text: 1, 5, 8

## OP12GJ
designator U?
Precision Low-Input-Current Operational Amplifier; Package Information: Latest Revision: 1990; Note: Pins 1, 5 and 8 are not connected; Pin 4 connected to case.; Published: 8-Jun-2000; Revision: 17-Jul-2002: Re-released for DXP Platform.; Datasheet: Designer's Reference Manual CD (1992); Package Reference: H-08A; Publisher: Altium Limited
footprint H-08A (Can; 8 Leads; Pin Circle Dia. 5.08 mm; Lead Dia. 0.53 mm (max))
pins: 1 NC, 2 IN- (in), 3 IN+ (in), 4 V- (power), 5 NC, 6 OUT (out), 7 V+ (power), 8 NC
text: 1, 5, 8

## OP14AJ
designator U?
Dual Matched High Performance Operational Amplifier; Package Information: Latest Revision: 1990; Published: 8-Jun-2000; Revision: 17-Jul-2002: Re-released for DXP Platform.; Datasheet: Designer's Reference Manual CD (REV. B 1992); Package Reference: H-08A; Publisher: Altium Limited
footprint H-08A (Can; 8 Leads; Pin Circle Dia. 5.08 mm; Lead Dia. 0.53 mm (max))
pins on every part: 4 V- (power), 8 V+ (power)
part A pins: 1 OUT (out), 2 IN- (in), 3 IN+ (in)
part B pins: 5 IN+ (in), 6 IN- (in), 7 OUT (out)
part A text: A
part B text: B

## OP14AJ/883
designator U?
Dual Matched High Performance Operational Amplifier; Package Information: Latest Revision: 1990; Published: 8-Jun-2000; Revision: 17-Jul-2002: Re-released for DXP Platform.; Datasheet: Designer's Reference Manual CD (REV. B 1992); Package Reference: H-08A; Publisher: Altium Limited
footprint H-08A (Can; 8 Leads; Pin Circle Dia. 5.08 mm; Lead Dia. 0.53 mm (max))
pins on every part: 4 V- (power), 8 V+ (power)
part A pins: 1 OUT (out), 2 IN- (in), 3 IN+ (in)
part B pins: 5 IN+ (in), 6 IN- (in), 7 OUT (out)
part A text: A
part B text: B

## OP14AZ
designator U?
Dual Matched High Performance Operational Amplifier; Package Information: Latest Revision: 1998; Published: 8-Jun-2000; Revision: 17-Jul-2002: Re-released for DXP Platform.; Datasheet: Designer's Reference Manual CD (REV. B 1992); Package Reference: Q-8; Publisher: Altium Limited
footprint Q-8 (DIP; 8 Leads; Row Spacing 7.62 mm; Pitch 2.54 mm)
pins on every part: 4 V- (power), 8 V+ (power)
part A pins: 1 OUT (out), 2 IN- (in), 3 IN+ (in)
part B pins: 5 IN+ (in), 6 IN- (in), 7 OUT (out)
part A text: A
part B text: B

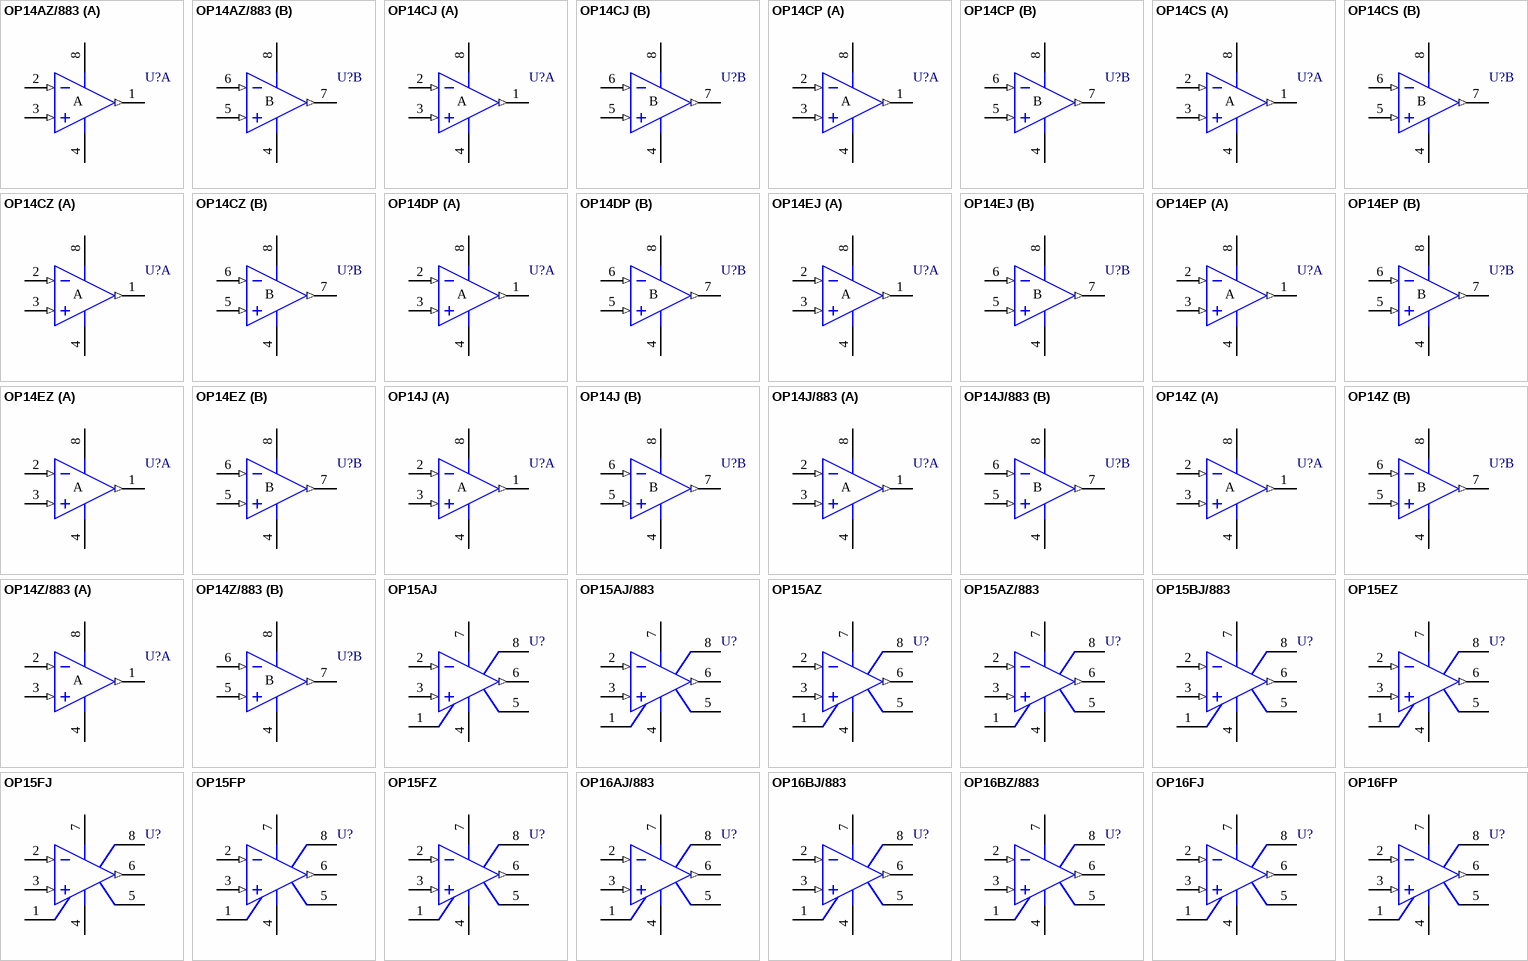
[diagram p22: symbols OP14AZ/883 to OP16FP]

## OP14AZ/883
designator U?
Dual Matched High Performance Operational Amplifier; Package Information: Latest Revision: 1998; Published: 8-Jun-2000; Revision: 17-Jul-2002: Re-released for DXP Platform.; Datasheet: Designer's Reference Manual CD (REV. B 1992); Package Reference: Q-8; Publisher: Altium Limited
footprint Q-8 (DIP; 8 Leads; Row Spacing 7.62 mm; Pitch 2.54 mm)
pins on every part: 4 V- (power), 8 V+ (power)
part A pins: 1 OUT (out), 2 IN- (in), 3 IN+ (in)
part B pins: 5 IN+ (in), 6 IN- (in), 7 OUT (out)
part A text: A
part B text: B

## OP14CJ
designator U?
Dual Matched High Performance Operational Amplifier; Package Information: Latest Revision: 1990; Published: 8-Jun-2000; Revision: 17-Jul-2002: Re-released for DXP Platform.; Datasheet: Designer's Reference Manual CD (REV. B 1992); Package Reference: H-08A; Publisher: Altium Limited
footprint H-08A (Can; 8 Leads; Pin Circle Dia. 5.08 mm; Lead Dia. 0.53 mm (max))
pins on every part: 4 V- (power), 8 V+ (power)
part A pins: 1 OUT (out), 2 IN- (in), 3 IN+ (in)
part B pins: 5 IN+ (in), 6 IN- (in), 7 OUT (out)
part A text: A
part B text: B

## OP14CP
designator U?
Dual Matched High Performance Operational Amplifier; Code - JEDEC: MO-001-AN; Published: 8-Jun-2000; Revision: 17-Jul-2002: Re-released for DXP Platform.; Datasheet: Designer's Reference Manual CD (REV. B 1992); Package Reference: N-8_A; Publisher: Altium Limited
footprint N-8_A (DIP; 8 Leads; Row Spacing 7.62 mm; Pitch 2.54 mm)
pins on every part: 4 V- (power), 8 V+ (power)
part A pins: 1 OUT (out), 2 IN- (in), 3 IN+ (in)
part B pins: 5 IN+ (in), 6 IN- (in), 7 OUT (out)
part A text: A
part B text: B

## OP14CS
designator U?
Dual Matched High Performance Operational Amplifier; Package Information: Latest Revision: revA; Code - JEDEC: MS-012-AA; Code - IPC: SO8; Published: 8-Jun-2000; Revision: 17-Jul-2002: Re-released for DXP Platform.; Datasheet: Designer's Reference Manual CD (REV. B 1992); Package Reference: SO-8; Publisher: Altium Limited
footprint SO-8 (Small Outline; 8 Leads; Body Width 3.9 mm; Pitch 1.27 mm)
pins on every part: 4 V- (power), 8 V+ (power)
part A pins: 1 OUT (out), 2 IN- (in), 3 IN+ (in)
part B pins: 5 IN+ (in), 6 IN- (in), 7 OUT (out)
part A text: A
part B text: B

## OP14CZ
designator U?
Dual Matched High Performance Operational Amplifier; Package Information: Latest Revision: 1998; Published: 8-Jun-2000; Revision: 17-Jul-2002: Re-released for DXP Platform.; Datasheet: Designer's Reference Manual CD (REV. B 1992); Package Reference: Q-8; Publisher: Altium Limited
footprint Q-8 (DIP; 8 Leads; Row Spacing 7.62 mm; Pitch 2.54 mm)
pins on every part: 4 V- (power), 8 V+ (power)
part A pins: 1 OUT (out), 2 IN- (in), 3 IN+ (in)
part B pins: 5 IN+ (in), 6 IN- (in), 7 OUT (out)
part A text: A
part B text: B

## OP14DP
designator U?
Dual Matched High Performance Operational Amplifier; Code - JEDEC: MO-001-AN; Published: 8-Jun-2000; Revision: 17-Jul-2002: Re-released for DXP Platform.; Datasheet: Designer's Reference Manual CD (REV. B 1992); Package Reference: N-8_A; Publisher: Altium Limited
footprint N-8_A (DIP; 8 Leads; Row Spacing 7.62 mm; Pitch 2.54 mm)
pins on every part: 4 V- (power), 8 V+ (power)
part A pins: 1 OUT (out), 2 IN- (in), 3 IN+ (in)
part B pins: 5 IN+ (in), 6 IN- (in), 7 OUT (out)
part A text: A
part B text: B

## OP14EJ
designator U?
Dual Matched High Performance Operational Amplifier; Package Information: Latest Revision: 1990; Published: 8-Jun-2000; Revision: 17-Jul-2002: Re-released for DXP Platform.; Datasheet: Designer's Reference Manual CD (REV. B 1992); Package Reference: H-08A; Publisher: Altium Limited
footprint H-08A (Can; 8 Leads; Pin Circle Dia. 5.08 mm; Lead Dia. 0.53 mm (max))
pins on every part: 4 V- (power), 8 V+ (power)
part A pins: 1 OUT (out), 2 IN- (in), 3 IN+ (in)
part B pins: 5 IN+ (in), 6 IN- (in), 7 OUT (out)
part A text: A
part B text: B

## OP14EP
designator U?
Dual Matched High Performance Operational Amplifier; Code - JEDEC: MO-001-AN; Published: 8-Jun-2000; Revision: 17-Jul-2002: Re-released for DXP Platform.; Datasheet: Designer's Reference Manual CD (REV. B 1992); Package Reference: N-8_A; Publisher: Altium Limited
footprint N-8_A (DIP; 8 Leads; Row Spacing 7.62 mm; Pitch 2.54 mm)
pins on every part: 4 V- (power), 8 V+ (power)
part A pins: 1 OUT (out), 2 IN- (in), 3 IN+ (in)
part B pins: 5 IN+ (in), 6 IN- (in), 7 OUT (out)
part A text: A
part B text: B

## OP14EZ
designator U?
Dual Matched High Performance Operational Amplifier; Package Information: Latest Revision: 1998; Published: 8-Jun-2000; Revision: 17-Jul-2002: Re-released for DXP Platform.; Datasheet: Designer's Reference Manual CD (REV. B 1992); Package Reference: Q-8; Publisher: Altium Limited
footprint Q-8 (DIP; 8 Leads; Row Spacing 7.62 mm; Pitch 2.54 mm)
pins on every part: 4 V- (power), 8 V+ (power)
part A pins: 1 OUT (out), 2 IN- (in), 3 IN+ (in)
part B pins: 5 IN+ (in), 6 IN- (in), 7 OUT (out)
part A text: A
part B text: B

## OP14J
designator U?
Dual Matched High Performance Operational Amplifier; Package Information: Latest Revision: 1990; Published: 8-Jun-2000; Revision: 17-Jul-2002: Re-released for DXP Platform.; Datasheet: Designer's Reference Manual CD (REV. B 1992); Package Reference: H-08A; Publisher: Altium Limited
footprint H-08A (Can; 8 Leads; Pin Circle Dia. 5.08 mm; Lead Dia. 0.53 mm (max))
pins on every part: 4 V- (power), 8 V+ (power)
part A pins: 1 OUT (out), 2 IN- (in), 3 IN+ (in)
part B pins: 5 IN+ (in), 6 IN- (in), 7 OUT (out)
part A text: A
part B text: B

## OP14J/883
designator U?
Dual Matched High Performance Operational Amplifier; Package Information: Latest Revision: 1990; Published: 8-Jun-2000; Revision: 17-Jul-2002: Re-released for DXP Platform.; Datasheet: Designer's Reference Manual CD (REV. B 1992); Package Reference: H-08A; Publisher: Altium Limited
footprint H-08A (Can; 8 Leads; Pin Circle Dia. 5.08 mm; Lead Dia. 0.53 mm (max))
pins on every part: 4 V- (power), 8 V+ (power)
part A pins: 1 OUT (out), 2 IN- (in), 3 IN+ (in)
part B pins: 5 IN+ (in), 6 IN- (in), 7 OUT (out)
part A text: A
part B text: B

## OP14Z
designator U?
Dual Matched High Performance Operational Amplifier; Package Information: Latest Revision: 1998; Published: 8-Jun-2000; Revision: 17-Jul-2002: Re-released for DXP Platform.; Datasheet: Designer's Reference Manual CD (REV. B 1992); Package Reference: Q-8; Publisher: Altium Limited
footprint Q-8 (DIP; 8 Leads; Row Spacing 7.62 mm; Pitch 2.54 mm)
pins on every part: 4 V- (power), 8 V+ (power)
part A pins: 1 OUT (out), 2 IN- (in), 3 IN+ (in)
part B pins: 5 IN+ (in), 6 IN- (in), 7 OUT (out)
part A text: A
part B text: B